# Altium footprint library MX34040NF2.PcbLib: 1 footprints
Each footprint in its own frame and in the unit in brackets; x right, y up, seen from the top. Pads: shape width x height; smd on the part's side, far side on the other; paste and mask are expansions set on the pad; w line width, h text height; cw(c..) or ccw(c..) is an arc to the next point about the centre after c.
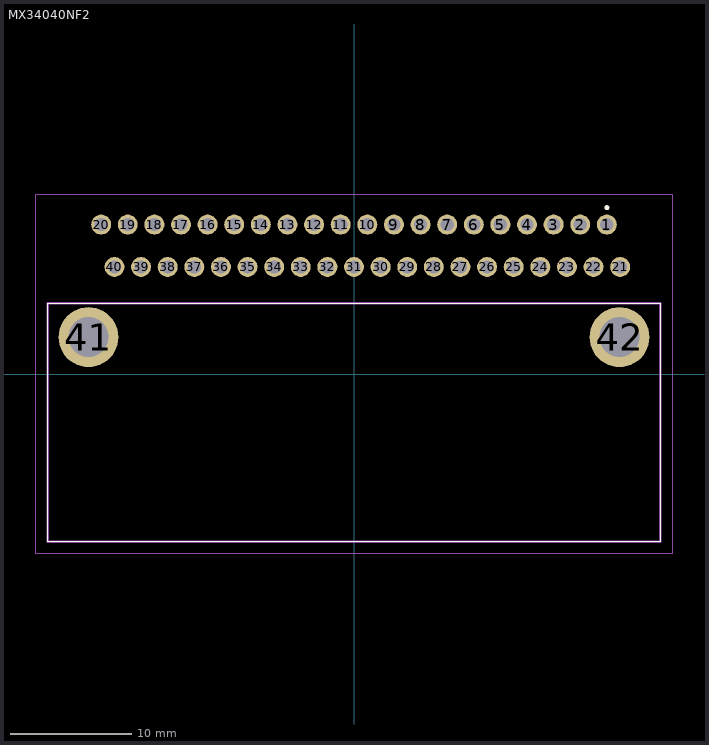
[diagram p0: the footprint, top view; thin cyan lines are the x and y axes]

## MX34040NF2 [mm]
pads (42):
  round 1.65 hole 1.1: 1(20.9,12.35) 2(18.7,12.35) 3(16.5,12.35) 4(14.3,12.35) 5(12.1,12.35) 6(9.9,12.35) 7(7.7,12.35) 8(5.5,12.35) 9(3.3,12.35) 10(1.1,12.35) 11(-1.1,12.35) 12(-3.3,12.35) 13(-5.5,12.35) 14(-7.7,12.35) 15(-9.9,12.35) 16(-12.1,12.35) 17(-14.3,12.35) 18(-16.5,12.35) 19(-18.7,12.35) 20(-20.9,12.35) 21(22,8.85) 22(19.8,8.85) 23(17.6,8.85) 24(15.4,8.85) 25(13.2,8.85) 26(11,8.85) 27(8.8,8.85) 28(6.6,8.85) 29(4.4,8.85) 30(2.2,8.85) 31(0,8.85) 32(-2.2,8.85) 33(-4.4,8.85) 34(-6.6,8.85) 35(-8.8,8.85) 36(-11,8.85) 37(-13.2,8.85) 38(-15.4,8.85) 39(-17.6,8.85) 40(-19.8,8.85)
  round 4.95 hole 3.3: 41(-21.95,3.05) 42(21.95,3.05)
Top Overlay:
  lines w0.1: -25.3,-13.85 25.3,-13.85 25.3,5.85 -25.3,5.85 -25.3,-13.85
  lines w0.2: 20.8,13.75 20.8,13.75 ; 20.8,13.75 cw(c20.9,13.75) 21,13.75 ; 20.8,13.75 ccw(c20.9,13.75) 21,13.75 ; 21,13.75 21,13.75
Mechanical 15:
  lines w0.2: -25.3,-13.85 25.3,-13.85 25.3,5.85 -25.3,5.85 -25.3,-13.85
Mechanical 20:
  lines w0.1: -26.3,-14.85 26.3,-14.85 26.3,14.85 -26.3,14.85 -26.3,-14.85